# Altium schematic symbol library HandHeld_terminal.SCHLIB: 42 symbols
Pins are listed as number, name and electrical type; pins without a type are passive.

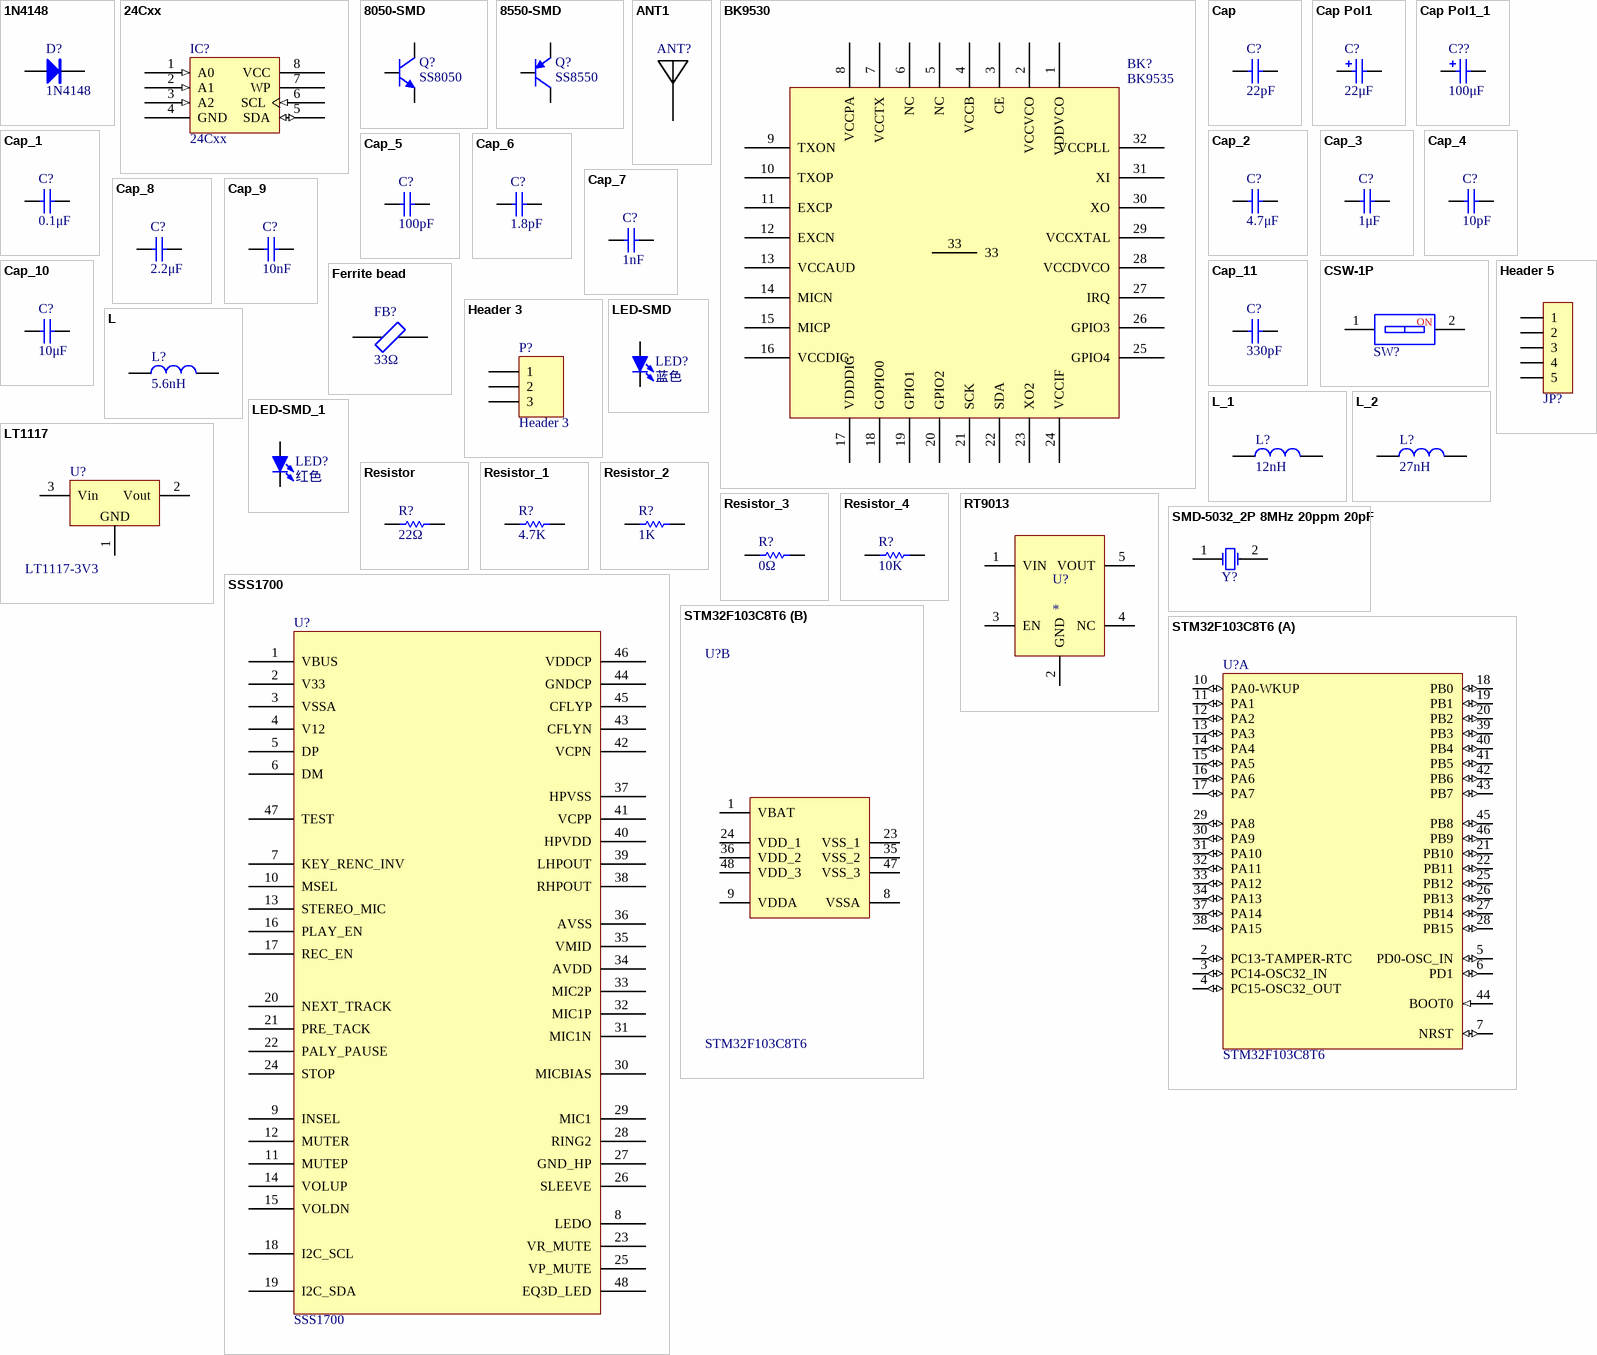
[diagram p0: symbols 1N4148 to STM32F103C8T6]

## 1N4148
designator D?
开关二极管; BOM名称: 高速开关二极管; 淘宝ID: 封装库来自淘宝 ID：黄晶宝石; 欢迎光临: https://shop463601444.taobao.com
footprint DO-35 (1.8*6.8mm(直径，脚距）)
footprint MINI_MELF (LL34) (1.5*3.4mm(直径，脚距）)
footprint SOD-323 (1.8x1.3X0.9mm（长宽高，不包括引脚）)
footprint DO-35V (1.8*2.5mm(直径，脚距）)
pins: 1 A, 2 K

## 24Cxx
designator IC?
外置EEPROM; 版权归属: 封装库来自淘宝 ID：黄晶宝石; BOM名称: 外置EEPROM; 唯一出售店铺网址: https://shop463601444.taobao.com
footprint SOP8_L (5*6*1.8mm（长宽高）)
footprint SOP8_N (5*6*1.8mm（长宽高）)
footprint SOP8_M (5*6*1.8mm（长宽高）)
pins: 1 A0 (in), 2 A1 (in), 3 A2 (in), 4 GND, 5 SDA (io), 6 SCL (in), 7 WP, 8 VCC (power)

## 8050-SMD
designator Q?, comment SS8050
高频放大-NPN型; 版权归属: 封装库来自淘宝 ID：黄晶宝石; 属性: 40V 1.5A 1W 100MHZ; BOM名称: 高频放大-NPN型; 联系售后: https://shop463601444.taobao.com
footprint SOT23-3N (3x1.3x1mm(长宽高))
footprint SOT23-3L (3x1.3x1mm(长宽高))
footprint SOT23-3M (3x1.3x1mm(长宽高))
pins: 1 B, 2 E, 3 C

## 8550-SMD
designator Q?, comment SS8550
高频放大-PNP型; 版权归属: 封装库来自淘宝 ID：黄晶宝石; 属性: 40V 1.5A 1W 100MHZ; BOM名称: 高频放大-PNP型; 学习资源: www.ooocke.com
footprint SOT23-3N (3x1.3x1mm(长宽高))
footprint SOT23-3L (3x1.3x1mm(长宽高))
footprint SOT23-3M (3x1.3x1mm(长宽高))
pins: 1 B, 2 E, 3 C

## ANT1
designator ANT?
PCB板载天线; 版权归属: 源创客; BOM名称: PCB板载天线; 学习资源: www.ooocke.com
footprint FPAD_6
pins: 1

## BK9530
designator BK?, comment BK9535
footprint QFN32 5x5_L (32脚，长x宽x高：5x5x0.95mm，脚距：0.5mm)
footprint QFN32 5x5_M (32脚，长x宽x高：5x5x0.95mm，脚距：0.5mm)
footprint QFN32 5x5_N (32脚，长x宽x高：5x5x0.95mm，脚距：0.5mm)
pins: 1 VDDVCO, 2 VCCVCO, 3 CE, 4 VCCB, 5 NC, 6 NC, 7 VCCTX, 8 VCCPA, 9 TXON, 10 TXOP, 11 EXCP, 12 EXCN, 13 VCCAUD, 14 MICN, 15 MICP, 16 VCCDIG, 17 VDDDIG, 18 GOPIO0, 19 GPIO1, 20 GPIO2, 21 SCK, 22 SDA, 23 XO2, 24 VCCIF, 25 GPIO4, 26 GPIO3, 27 IRQ, 28 VCCDVCO, 29 VCCXTAL, 30 XO, 31 XI, 32 VCCPLL, 33

## Cap
designator C?  value 22pF  (hidden comment: Cap)
Capacitor; Published: 8-Jun-2000; LatestRevisionDate: 17-Jul-2002; LatestRevisionNote: Re-released for DXP Platform.; PackageReference: RAD-0.3; Publisher: Altium Limited; PackageDescription: Radial Cap, Thru-Hole; 2 Leads; 0.3 in Pin Spacing
footprint C 0805_L (无极性贴片电容                                        淘宝ID:黄晶宝石)
pins: 1, 2

## Cap Pol1
designator C?  value 22μF  (hidden comment: Cap Pol1)
Polarized Capacitor (Radial); Published: 8-Jun-2000; LatestRevisionDate: 17-Jul-2002; LatestRevisionNote: Re-released for DXP Platform.; PackageReference: RB7.6-15; Publisher: Altium Limited
footprint CD C(6032) (长6.0mm，宽3.2mm，厚2.5mm      淘宝ID:黄晶宝石)
footprint CM B(4*5.4) (贴片电解电容，直径4mm，高5.4mm          淘宝ID:黄晶宝石)
footprint CD B(3528) (长3.5mm，宽2.8mm，厚1.9mm      淘宝ID:黄晶宝石)
footprint CM C(5*5.4) (贴片电解电容，直径5mm，高5.4mm            淘宝ID:黄晶宝石)
footprint CM D(6.3*7.7) (贴片电解电容，直径6.3mm，高7.7mm         淘宝ID:黄晶宝石)
footprint CM E(8*10.2) (贴片电解电容，直径8mm，高10.2mm)
footprint CM F(10*10.2) (贴片电解电容，直径10mm，高10.2mm)
pins: 1, 2
1 alternate drawing of the same symbol

## Cap Pol1_1
designator C??, comment value 100μF  (hidden comment: Cap Pol1)
Polarized Capacitor (Radial); Published: 8-Jun-2000; LatestRevisionDate: 17-Jul-2002; LatestRevisionNote: Re-released for DXP Platform.; PackageReference: RB7.6-15; Publisher: Altium Limited
footprint CD C(6032) (长6.0mm，宽3.2mm，厚2.5mm      淘宝ID:黄晶宝石)
footprint CM B(4*5.4) (贴片电解电容，直径4mm，高5.4mm          淘宝ID:黄晶宝石)
footprint CD B(3528) (长3.5mm，宽2.8mm，厚1.9mm      淘宝ID:黄晶宝石)
footprint CM C(5*5.4) (贴片电解电容，直径5mm，高5.4mm            淘宝ID:黄晶宝石)
footprint CM D(6.3*7.7) (贴片电解电容，直径6.3mm，高7.7mm         淘宝ID:黄晶宝石)
footprint CM E(8*10.2) (贴片电解电容，直径8mm，高10.2mm)
footprint CM F(10*10.2) (贴片电解电容，直径10mm，高10.2mm)
pins: 1, 2
1 alternate drawing of the same symbol

## Cap_1
designator C?, comment value 0.1μF  (hidden comment: Cap)
Capacitor; Published: 8-Jun-2000; LatestRevisionDate: 17-Jul-2002; LatestRevisionNote: Re-released for DXP Platform.; PackageReference: RAD-0.3; Publisher: Altium Limited; PackageDescription: Radial Cap, Thru-Hole; 2 Leads; 0.3 in Pin Spacing
footprint C 0805_L (无极性贴片电容                                        淘宝ID:黄晶宝石)
footprint C 0603_L (无极性贴片电容                                       淘宝ID:黄晶宝石)
footprint C 1206_L (无极性贴片电容)
pins: 1, 2

## Cap_2
designator C?, comment value 4.7μF  (hidden comment: Cap)
Capacitor; Published: 8-Jun-2000; LatestRevisionDate: 17-Jul-2002; LatestRevisionNote: Re-released for DXP Platform.; PackageReference: RAD-0.3; Publisher: Altium Limited; PackageDescription: Radial Cap, Thru-Hole; 2 Leads; 0.3 in Pin Spacing
footprint C 0805_L (无极性贴片电容                                        淘宝ID:黄晶宝石)
footprint C 0603_L (无极性贴片电容                                       淘宝ID:黄晶宝石)
footprint C 1206_L (无极性贴片电容)
pins: 1, 2

## Cap_3
designator C?, comment value 1μF  (hidden comment: Cap)
Capacitor; Published: 8-Jun-2000; LatestRevisionDate: 17-Jul-2002; LatestRevisionNote: Re-released for DXP Platform.; PackageReference: RAD-0.3; Publisher: Altium Limited; PackageDescription: Radial Cap, Thru-Hole; 2 Leads; 0.3 in Pin Spacing
footprint C 0805_L (无极性贴片电容                                        淘宝ID:黄晶宝石)
pins: 1, 2

## Cap_4
designator C?, comment value 10pF  (hidden comment: Cap)
Capacitor; Published: 8-Jun-2000; LatestRevisionDate: 17-Jul-2002; LatestRevisionNote: Re-released for DXP Platform.; PackageReference: RAD-0.3; Publisher: Altium Limited; PackageDescription: Radial Cap, Thru-Hole; 2 Leads; 0.3 in Pin Spacing
footprint C 0805_L (无极性贴片电容                                        淘宝ID:黄晶宝石)
pins: 1, 2

## Cap_5
designator C?, comment value 100pF  (hidden comment: Cap)
Capacitor; Published: 8-Jun-2000; LatestRevisionDate: 17-Jul-2002; LatestRevisionNote: Re-released for DXP Platform.; PackageReference: RAD-0.3; Publisher: Altium Limited; PackageDescription: Radial Cap, Thru-Hole; 2 Leads; 0.3 in Pin Spacing
footprint C 0805_L (无极性贴片电容                                        淘宝ID:黄晶宝石)
footprint C 0603_L (无极性贴片电容                                       淘宝ID:黄晶宝石)
pins: 1, 2

## Cap_6
designator C?, comment value 1.8pF  (hidden comment: Cap)
Capacitor; Published: 8-Jun-2000; LatestRevisionDate: 17-Jul-2002; LatestRevisionNote: Re-released for DXP Platform.; PackageReference: RAD-0.3; Publisher: Altium Limited; PackageDescription: Radial Cap, Thru-Hole; 2 Leads; 0.3 in Pin Spacing
footprint C 0805_L (无极性贴片电容                                        淘宝ID:黄晶宝石)
footprint C 0603_L (无极性贴片电容                                       淘宝ID:黄晶宝石)
pins: 1, 2

## Cap_7
designator C?, comment value 1nF  (hidden comment: Cap)
Capacitor; Published: 8-Jun-2000; LatestRevisionDate: 17-Jul-2002; LatestRevisionNote: Re-released for DXP Platform.; PackageReference: RAD-0.3; Publisher: Altium Limited; PackageDescription: Radial Cap, Thru-Hole; 2 Leads; 0.3 in Pin Spacing
footprint C 0805_L (无极性贴片电容                                        淘宝ID:黄晶宝石)
pins: 1, 2

## Cap_8
designator C?, comment value 2.2μF  (hidden comment: Cap)
Capacitor; Published: 8-Jun-2000; LatestRevisionDate: 17-Jul-2002; LatestRevisionNote: Re-released for DXP Platform.; PackageReference: RAD-0.3; Publisher: Altium Limited; PackageDescription: Radial Cap, Thru-Hole; 2 Leads; 0.3 in Pin Spacing
footprint C 0805_L (无极性贴片电容                                        淘宝ID:黄晶宝石)
pins: 1, 2

## Cap_9
designator C?, comment value 10nF  (hidden comment: Cap)
Capacitor; Published: 8-Jun-2000; LatestRevisionDate: 17-Jul-2002; LatestRevisionNote: Re-released for DXP Platform.; PackageReference: RAD-0.3; Publisher: Altium Limited; PackageDescription: Radial Cap, Thru-Hole; 2 Leads; 0.3 in Pin Spacing
footprint C 0805_L (无极性贴片电容                                        淘宝ID:黄晶宝石)
footprint C 0603_L (无极性贴片电容                                       淘宝ID:黄晶宝石)
footprint C 1206_L (无极性贴片电容)
pins: 1, 2

## Cap_10
designator C?, comment value 10μF  (hidden comment: Cap)
Capacitor; Published: 8-Jun-2000; LatestRevisionDate: 17-Jul-2002; LatestRevisionNote: Re-released for DXP Platform.; PackageReference: RAD-0.3; Publisher: Altium Limited; PackageDescription: Radial Cap, Thru-Hole; 2 Leads; 0.3 in Pin Spacing
footprint C 0805_L (无极性贴片电容                                        淘宝ID:黄晶宝石)
footprint C 0603_L (无极性贴片电容                                       淘宝ID:黄晶宝石)
footprint C 1206_L (无极性贴片电容)
pins: 1, 2

## Cap_11
designator C?, comment value 330pF  (hidden comment: Cap)
Capacitor; Published: 8-Jun-2000; LatestRevisionDate: 17-Jul-2002; LatestRevisionNote: Re-released for DXP Platform.; PackageReference: RAD-0.3; Publisher: Altium Limited; PackageDescription: Radial Cap, Thru-Hole; 2 Leads; 0.3 in Pin Spacing
footprint C 0805_L (无极性贴片电容                                        淘宝ID:黄晶宝石)
pins: 1, 2

## CSW-1P
designator SW?  (value not drawn)
1路编码开关; 版权归属: 源创客; BOM名称: 1路编码开关; 学习资源: www.ooocke.com
footprint HDR2.54-LI-5P (排针，5脚)
pins: 1, 2
text: NO

## Ferrite bead
designator FB?  value 33Ω  (hidden comment: Ferrite bead)
铁氧体磁珠
footprint C 0805_L (无极性贴片电容                                        淘宝ID:黄晶宝石)
footprint C 0603_L (无极性贴片电容                                       淘宝ID:黄晶宝石)
footprint C 1206_L (无极性贴片电容)
pins: 1, 2

## Header 3
designator P?
Header, 3-Pin; LatestRevisionDate: 17-Jul-2002; LatestRevisionNote: Re-released for DXP Platform.; Publisher: Altium Limited
footprint HDR1X3 (Connector; Header; 3 Position)
signal-integrity model Connector
pins: 1, 2, 3

## Header 5
designator JP?, comment HDR-1X5  (value not drawn)
5P接插件; 版权归属: 封装库来自淘宝 ID：黄晶宝石; BOM名称: 5P接插件; 学习资源: https://shop463601444.taobao.com
footprint HDR2.54-LI-5P (排针，5脚)
footprint HDR2.54-M-LI-5P (排母，5脚)
footprint HDR2.54-WI-5P (弯脚排针，5脚)
footprint HDR2.54-WS-5P (5P卧式贴片排针2.54)
footprint HDR2.54-Y-LI-5P (圆孔排母，5脚)
footprint HDR2.54-M-WS-5P (5P卧式贴片排母2.54)
footprint XH2.54-LI-5P (接插件，5P  淘宝ID:黄晶宝石   店铺网址:https://shop463601444.taobao.com)
footprint HDR2.0-LI-5P (直插，脚距：2.0mm)
pins: 1, 2, 3, 4, 5

## L
designator L?  value 5.6nH  (hidden comment: L)
小功率贴片电感; 淘宝ID: 封装库来自淘宝 ID：黄晶宝石; 封装库来自淘宝卖家 ID：黄晶宝石: 其他店铺购入均为盗版，不享受售后技术支持服务，请立即申请退款; BOM名称: 小功率贴片电感; 联系售后: https://shop463601444.taobao.com
footprint L 0402 (小功率贴片电感)
footprint L 0603 (小功率贴片电感)
footprint L 0805 (小功率贴片电感)
footprint L 1206 (小功率贴片电感)
footprint L 1210 (小功率贴片电感)
footprint L 1806 (小功率贴片电感)
footprint L 1812 (小功率贴片电感)
pins: 1, 2

## L_1
designator L?, comment value 12nH  (hidden comment: L)
小功率贴片电感; 淘宝ID: 封装库来自淘宝 ID：黄晶宝石; 封装库来自淘宝卖家 ID：黄晶宝石: 其他店铺购入均为盗版，不享受售后技术支持服务，请立即申请退款; BOM名称: 小功率贴片电感; 联系售后: https://shop463601444.taobao.com
footprint L 0402 (小功率贴片电感)
footprint L 0603 (小功率贴片电感)
footprint L 0805 (小功率贴片电感)
footprint L 1206 (小功率贴片电感)
footprint L 1210 (小功率贴片电感)
footprint L 1806 (小功率贴片电感)
footprint L 1812 (小功率贴片电感)
pins: 1, 2

## L_2
designator L?, comment value 27nH  (hidden comment: L)
小功率贴片电感; 淘宝ID: 封装库来自淘宝 ID：黄晶宝石; 封装库来自淘宝卖家 ID：黄晶宝石: 其他店铺购入均为盗版，不享受售后技术支持服务，请立即申请退款; BOM名称: 小功率贴片电感; 联系售后: https://shop463601444.taobao.com
footprint L 0402 (小功率贴片电感)
footprint L 0603 (小功率贴片电感)
footprint L 0805 (小功率贴片电感)
footprint L 1206 (小功率贴片电感)
footprint L 1210 (小功率贴片电感)
footprint L 1806 (小功率贴片电感)
footprint L 1812 (小功率贴片电感)
pins: 1, 2

## LED-SMD
designator LED?, comment 蓝色
贴片LED; 版权归属: 封装库来自淘宝 ID：黄晶宝石; BOM名称: 贴片LED; 学习资源: https://shop463601444.taobao.com
footprint LED 0603W (白色0603LED)
footprint LED 0603R (红色0603LED)
footprint LED 0603B (蓝色0603LED)
footprint LED 0603G (绿色0603LED)
footprint LED 0603Y (黄色0603LED)
footprint LED 0805G (绿色0805LED)
footprint LED 0805R (红色0805LED)
footprint LED 0805B (蓝色0805LED)
footprint LED 0805Y (黄色0805LED)
footprint LED 3528-2Pin (2脚，3528LED)
footprint LED 1206G (绿色1206LED)
footprint LED 5730-V (紫色5730LED)
footprint LED 1206Y (黄色1206LED)
footprint LED 0805W (白色0805LED)
footprint LED 1206B (蓝色1206LED)
footprint LED 1206W (白色1206LED)
footprint LED 1206R (红色1206LED)
pins: 1 A, 2 K

## LED-SMD_1
designator LED?, comment 红色
贴片LED; 版权归属: 封装库来自淘宝 ID：黄晶宝石; BOM名称: 贴片LED; 学习资源: https://shop463601444.taobao.com
footprint LED 0603W (白色0603LED)
footprint LED 0603R (红色0603LED)
footprint LED 0603B (蓝色0603LED)
footprint LED 0603G (绿色0603LED)
footprint LED 0603Y (黄色0603LED)
footprint LED 0805G (绿色0805LED)
footprint LED 0805R (红色0805LED)
footprint LED 0805B (蓝色0805LED)
footprint LED 0805Y (黄色0805LED)
footprint LED 3528-2Pin (2脚，3528LED)
footprint LED 1206G (绿色1206LED)
footprint LED 5730-V (紫色5730LED)
footprint LED 1206Y (黄色1206LED)
footprint LED 0805W (白色0805LED)
footprint LED 1206B (蓝色1206LED)
footprint LED 1206W (白色1206LED)
footprint LED 1206R (红色1206LED)
pins: 1 A, 2 K

## LT1117
designator U?, comment LT1117-3V3
三端稳压芯片; BOM名称: 稳压芯片; 版权归属: 源创客; 学习资源: www.ooocke.com
footprint SOT223_L (6.4x7x1.6mm(长宽高))
pins: 1 GND, 2 Vout, 3 Vin

## Resistor
designator R?  value 22Ω  (hidden comment: Resistor)
Published: 8-Jun-2000; LatestRevisionDate: 17-Jul-2002; LatestRevisionNote: Re-released for DXP Platform.; PackageReference: AXIAL-0.5; Publisher: Altium Limited
footprint R 0805_L (1/8W贴片电阻)
footprint R 0603_L (1/10W贴片电阻                 淘宝ID:黄晶宝石)
footprint R 1206_L (1/4W贴片电阻)
footprint R 1210_L (1/3W贴片电阻                                淘宝ID:黄晶宝石)
pins: 1, 2

## Resistor_1
designator R?, comment value 4.7K  (hidden comment: Resistor)
Published: 8-Jun-2000; LatestRevisionDate: 17-Jul-2002; LatestRevisionNote: Re-released for DXP Platform.; PackageReference: AXIAL-0.5; Publisher: Altium Limited
footprint R 0805_L (1/8W贴片电阻)
footprint R 0603_L (1/10W贴片电阻                 淘宝ID:黄晶宝石)
footprint R 1206_L (1/4W贴片电阻)
footprint R 1210_L (1/3W贴片电阻                                淘宝ID:黄晶宝石)
pins: 1, 2

## Resistor_2
designator R?, comment value 1K  (hidden comment: Resistor)
Published: 8-Jun-2000; LatestRevisionDate: 17-Jul-2002; LatestRevisionNote: Re-released for DXP Platform.; PackageReference: AXIAL-0.5; Publisher: Altium Limited
footprint R 0805_L (1/8W贴片电阻)
footprint R 0603_L (1/10W贴片电阻                 淘宝ID:黄晶宝石)
footprint R 1206_L (1/4W贴片电阻)
footprint R 1210_L (1/3W贴片电阻                                淘宝ID:黄晶宝石)
pins: 1, 2

## Resistor_3
designator R?, comment value 0Ω  (hidden comment: Resistor)
Published: 8-Jun-2000; LatestRevisionDate: 17-Jul-2002; LatestRevisionNote: Re-released for DXP Platform.; PackageReference: AXIAL-0.5; Publisher: Altium Limited
footprint R 0805_L (1/8W贴片电阻)
footprint R 0603_L (1/10W贴片电阻                 淘宝ID:黄晶宝石)
footprint R 1206_L (1/4W贴片电阻)
footprint R 1210_L (1/3W贴片电阻                                淘宝ID:黄晶宝石)
pins: 1, 2

## Resistor_4
designator R?, comment value 10K  (hidden comment: Resistor)
Published: 8-Jun-2000; LatestRevisionDate: 17-Jul-2002; LatestRevisionNote: Re-released for DXP Platform.; PackageReference: AXIAL-0.5; Publisher: Altium Limited
footprint R 0805_L (1/8W贴片电阻)
footprint R 0603_L (1/10W贴片电阻                 淘宝ID:黄晶宝石)
footprint R 1206_L (1/4W贴片电阻)
footprint R 1210_L (1/3W贴片电阻                                淘宝ID:黄晶宝石)
pins: 1, 2

## RT9013
designator U?
LDO
footprint SOT23-5L (3x1.6x1.1mm(长宽高) 封装库来自淘宝卖家 ID：黄晶宝石)
pins: 1 VIN, 2 GND, 3 EN, 4 NC, 5 VOUT

## SMD-5032_2P 8MHz 20ppm 20pF
designator Y?, comment 8MHz ±20ppm 20pF  (value not drawn)
贴片晶振; ComponentLink1Description: 供应商链接; ComponentLink1URL: http://www.szlcsc.com/product/details_117214.html; Package: SMD-5032_2P; Supplier: LC; SuppliersPartNumber: C115962
footprint OSC 5032-2P (5mm*3.2mm*0.8mm(长*宽*高)                  淘宝ID:黄晶宝石)
pins: 1 OSC1, 2 OSC2

## SSS1700
designator U?
USB音频芯片
footprint LQFP48_L (封装库来自淘宝 ID：黄晶宝石 Thin QFP, 48-Leads, Body 7x7mm, Pitch 0.5mm, IPC High Density)
pins: 1 VBUS, 2 V33, 3 VSSA, 4 V12, 5 DP, 6 DM, 7 KEY_RENC_INV, 8 LEDO, 9 INSEL, 10 MSEL, 11 MUTEP, 12 MUTER, 13 STEREO_MIC, 14 VOLUP, 15 VOLDN, 16 PLAY_EN, 17 REC_EN, 18 I2C_SCL, 19 I2C_SDA, 20 NEXT_TRACK, 21 PRE_TACK, 22 PALY_PAUSE, 23 VR_MUTE, 24 STOP, 25 VP_MUTE, 26 SLEEVE, 27 GND_HP, 28 RING2, 29 MIC1, 30 MICBIAS, 31 MIC1N, 32 MIC1P, 33 MIC2P, 34 AVDD, 35 VMID, 36 AVSS, 37 HPVSS, 38 RHPOUT, 39 LHPOUT, 40 HPVDD, 41 VCPP, 42 VCPN, 43 CFLYN, 44 GNDCP, 45 CFLYP, 46 VDDCP, 47 TEST, 48 EQ3D_LED

## STM32F103C8T6
designator U?
ARM; ComponentLink1Description: 供应商链接; ComponentLink1URL: http://www.szlcsc.com/product/details_9243.html; Package: LQFP-48_7x7x05P; Supplier: LC; SuppliersPartNumber: C8734
footprint LQFP48_L (封装库来自淘宝 ID：黄晶宝石 Thin QFP, 48-Leads, Body 7x7mm, Pitch 0.5mm, IPC High Density)
part A pins: 2 PC13-TAMPER-RTC (io), 3 PC14-OSC32_IN (io), 4 PC15-OSC32_OUT (io), 5 PD0-OSC_IN (io), 6 PD1 (io), 7 NRST (io), 10 PA0-WKUP (io), 11 PA1 (io), 12 PA2 (io), 13 PA3 (io), 14 PA4 (io), 15 PA5 (io), 16 PA6 (io), 17 PA7 (io), 18 PB0 (io), 19 PB1 (io), 20 PB2 (io), 21 PB10 (io), 22 PB11 (io), 25 PB12 (io), 26 PB13 (io), 27 PB14 (io), 28 PB15 (io), 29 PA8 (io), 30 PA9 (io), 31 PA10 (io), 32 PA11 (io), 33 PA12 (io), 34 PA13 (io), 37 PA14 (io), 38 PA15 (io), 39 PB3 (io), 40 PB4 (io), 41 PB5 (io), 42 PB6 (io), 43 PB7 (io), 44 BOOT0 (in), 45 PB8 (io), 46 PB9 (io)
part B pins: 1 VBAT (power), 8 VSSA (power), 9 VDDA (power), 23 VSS_1 (power), 24 VDD_1 (power), 35 VSS_2 (power), 36 VDD_2 (power), 47 VSS_3 (power), 48 VDD_3 (power)

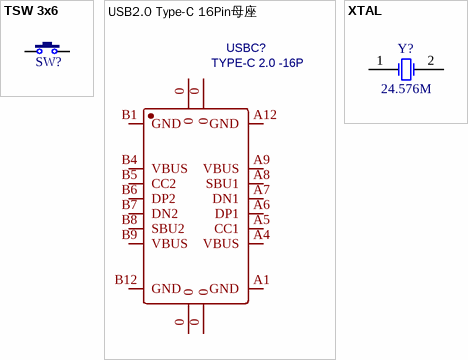
[diagram p1: symbols TSW 3x6 to XTAL]

## TSW 3x6
designator SW?, comment 3x6x5  (value not drawn)
3x6轻触开关; 版权归属: 封装库来自淘宝 ID：黄晶宝石; BOM名称: 3x6轻触开关; 学习资源: https://shop463601444.taobao.com
footprint TSW SMD-3*6*2.5 (3*6*2.5mm)
footprint TSW DIP-3*6*5_V (侧按轻触开关 3*6*5mm)
footprint TSW DIP-3*6*4.3 (3*6*4.3mm)
footprint TSW DIP-3*6*4.3_V (侧按轻触开关 3*6*4.3mm)
footprint TSW DIP-3*6*5 (3*6*5mm)
footprint TSW SMD-3*6*4.3 (3*6*4.3mm)
footprint TSW SMD-3*6*5 (3*6*5mm)
footprint TSW 3*6*4.3-S-W (侧立贴片3*6*4.3)
pins: 1, 2

## USB2.0 Type-C 16Pin母座
designator USBC?, comment TYPE-C 2.0 -16P
USB2.0 Type-C 母座 16Pin; BOM_Manufacturer: LCSC; BOM_Supplier: LCSC; BOM_Manufacturer Part: -; spicePre: U; spiceSymbolName: TYPE-C 3.1 -16P_C168689
footprint USB-C-SMD_TYPE-C-USB-5
pins: 0, 0, 0, 0, A1 GND, A4 VBUS, A5 CC1, A6 DP1, A7 DN1, A8 SBU1, A9 VBUS, A12 GND, B1 GND, B4 VBUS, B5 CC2, B6 DP2, B7 DN2, B8 SBU2, B9 VBUS, B12 GND

## XTAL
designator Y?, comment 24.576M
Crystal Oscillator; Published: 8-Jun-2000; LatestRevisionDate: 17-Jul-2002; LatestRevisionNote: Re-released for DXP Platform.; PackageReference: R38; Publisher: Altium Limited; PackageDescription: Crystal, Thru-Hole; 2 Leads; Body 3.1 x 8.2 mm (Dia.xH)
simulation model XTAL (Spice Subcircuit)
footprint OSC 5032-2P (5mm*3.2mm*0.8mm(长*宽*高)                  淘宝ID:黄晶宝石)
pins: 1 OSC1, 2 OSC2